# Altium integrated library Linear Technology Power Management LDO Linear Regulators.IntLib: 2339 symbols (part 37 of 131)
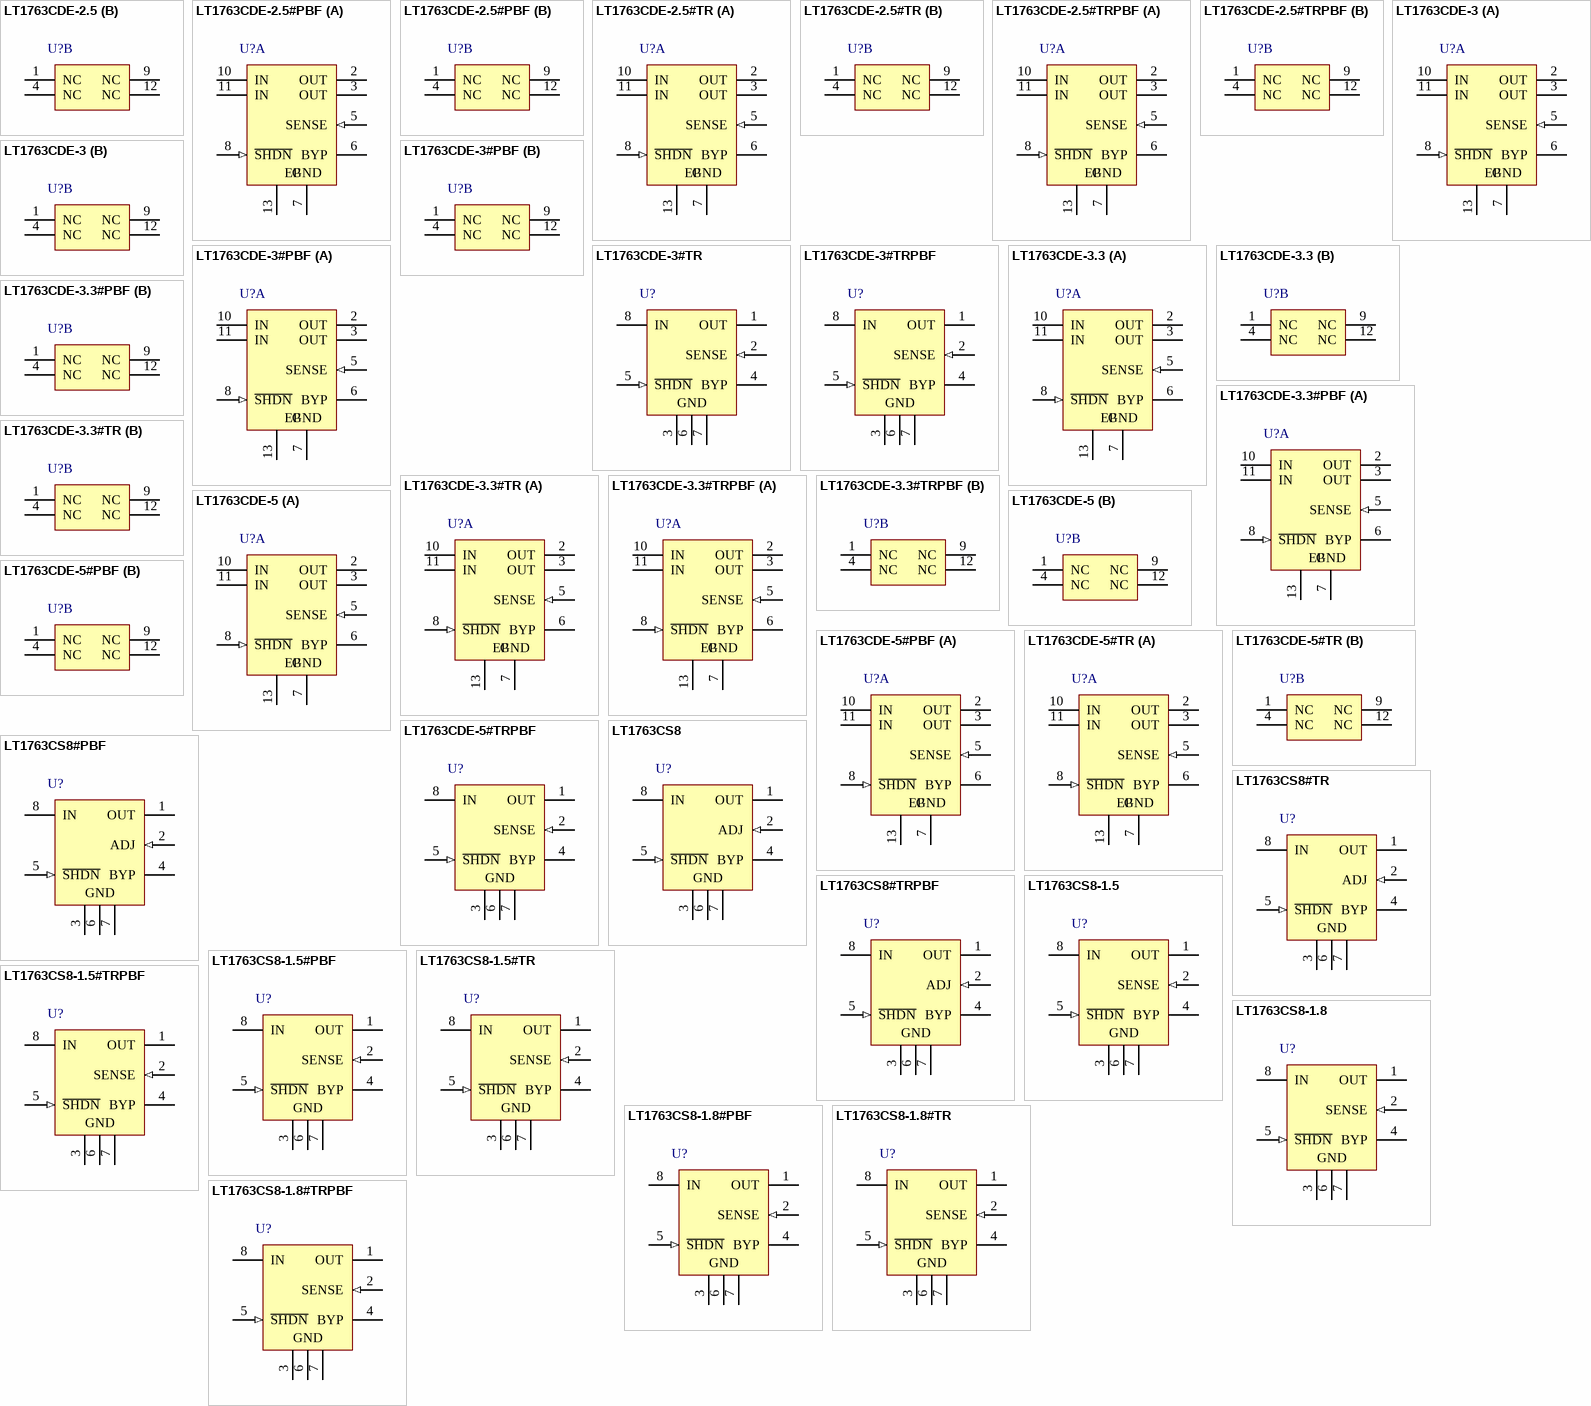
[diagram p105: symbols LT1763CDE-2.5 to LT1763CS8-1.8#TRPBF]

## LT1763CDE-3.3#TRPBF
designator U?
500 mA, Low Noise, LDO Micropower Regulator, 1.8 to 20 V Vin, 3.3 V Vout, 12-pin SON (DE-UE-12), -40 to 125 degC, Pb-Free, Tape and Reel; Manufacturer: Linear Technology; PartNumber: LT1763CDE-3.3#TRPBF; Discrete Pass Element: no; Dropout Voltage(V): 0.3; Iout(mA): 500; Isupply(mA): 0.03; Noise(uV): 20; Number of Outputs: 1; Output Voltage: 3.3 V; PSRR(dB): 65; Vin Min(V): 1.8; DatasheetVersion: Rev. G; PackageVersion: Rev. D, 06/2010; PackageReference: DE-UE-12; PackageDescription: 12-Pin Plastic DFN, Body 4 x 3 mm, Pitch 0.5 mm; Supplier 1: Digi-Key; Supplier Part Number 1: LT1763CDE-3.3#TRPBF-ND; Supplier 2: Newark; Supplier Part Number 2: 57M6031; Packing: Tape and Reel; RoHS: TRUE; Shutdown Current(uA): 1; Vin Max(V): 20; Mounting Technology: Surface Mount; Code_JEDEC: MO-229; ComponentLink1Description: Manufacturer URL; ComponentLink1URL: http://www.linear.com/; ComponentLink2Description: Datasheet; ComponentLink2URL: http://cds.linear.com/docs/en/datasheet/1763fg.pdf; ComponentLink3Description: Package Specification; ComponentLink3URL: http://cds.linear.com/docs/en/packaging/DFN_12_05-08-1695.pdf
footprint LT-DE-UE-12_V (SON, 12-Leads, Body 4x3mm, Pitch 0.5mm, Thermal Pad 3.3x1.7mm)
part A pins: 2 OUT (power) "Output. The output supplies power to the load. A minimum output capacitor of 3.3uF is required to prevent oscillations. Larger output capacitors will be required for applications with large transient loads to limit peak (See Datasheet)", 3 OUT (power) "Output. The output supplies power to the load. A minimum output capacitor of 3.3uF is required to prevent oscillations. Larger output capacitors will be required for applications with large transient loads to limit peak (See Datasheet)", 5 SENSE (in) "Output Sense. For ?xed voltage versions of the LT1763 (LT1763-1.5/LT1763-1.8/ LT1763-2.5/LT1763-3/LT1763-3.3/LT1763-5), the SENSE pin is the input to the error amplifier. Optimum regulation will be obtained at the po(See Datasheet)", 6 BYP "Bypass. The BYP pin is used to bypass  the reference of the LT1763 regulators to achieve low noise  performance from the regulator. The BYP pin is clamped  internally to +/-0.6V (one VBE). A small capacitor from the  output (See Datasheet)", 7 GND (power) "Ground. The exposed pad of the DFN package is an electrical connection to GND. To ensure proper electrical and thermal  performance, solder Pin 13 to the PCB ground and tie  directly to Pin 7. Connect the bottom of the (See Datasheet)", 8 ~{SHDN} (in) "Shutdown. The S\H\D\N\ pin is used  to put the LT1763 regulators into a low power shutdown state. The output will be off when the S\H\D\N\ pin is pulled low. The S\H\D\N\ pin can be driven either by 5V logic or (See Datasheet)", 10 IN (power) "Input. Power is supplied to the device through the IN pin. A bypass capacitor is required on this  pin if the device is more than six inches away from the  main input filter capacitor. In general, the output impedance of (See Datasheet)", 11 IN (power) "Input. Power is supplied to the device through the IN pin. A bypass capacitor is required on this  pin if the device is more than six inches away from the  main input filter capacitor. In general, the output impedance of (See Datasheet)", 13 EP (power) "Ground. The exposed pad of the DFN package is an electrical connection to GND. To ensure proper electrical and thermal performance, solder Pin 13 to the PCB ground and tie  directly to Pin 7. Connect the bottom of the output (See Datasheet)"
part B pins: 1 NC "No Connect. No connect  pins have no connection to any internal circuitry. These pins may be tied to either GND or VIN, or left floating.", 4 NC "No Connect. No connect  pins have no connection to any internal circuitry. These pins may be tied to either GND or VIN, or left floating.", 9 NC "No Connect. No connect  pins have no connection to any internal circuitry. These pins may be tied to either GND or VIN, or left floating.", 12 NC "No Connect. No connect  pins have no connection to any internal circuitry. These pins may be tied to either GND or VIN, or left ?oating."

## LT1763CDE-5
designator U?
500 mA, Low Noise, LDO Micropower Regulator, 1.8 to 20 V Vin, 5 V Vout, 12-pin SON (DE-UE-12), -40 to 125 degC; Manufacturer: Linear Technology; PartNumber: LT1763CDE-5; Discrete Pass Element: no; Dropout Voltage(V): 0.3; Iout(mA): 500; Isupply(mA): 0.03; Noise(uV): 20; Number of Outputs: 1; Output Voltage: 5 V; PSRR(dB): 65; Vin Min(V): 1.8; DatasheetVersion: Rev. G; PackageVersion: Rev. D, 06/2010; PackageReference: DE-UE-12; PackageDescription: 12-Pin Plastic DFN, Body 4 x 3 mm, Pitch 0.5 mm; Supplier 1: Newark; Supplier Part Number 1: 57M6035; RoHS: FALSE; Shutdown Current(uA): 1; Vin Max(V): 20; Mounting Technology: Surface Mount; Code_JEDEC: MO-229; ComponentLink1Description: Manufacturer URL; ComponentLink1URL: http://www.linear.com/; ComponentLink2Description: Datasheet; ComponentLink2URL: http://cds.linear.com/docs/en/datasheet/1763fg.pdf; ComponentLink3Description: Package Specification; ComponentLink3URL: http://cds.linear.com/docs/en/packaging/DFN_12_05-08-1695.pdf
footprint LT-DE-UE-12_V (SON, 12-Leads, Body 4x3mm, Pitch 0.5mm, Thermal Pad 3.3x1.7mm)
part A pins: 2 OUT (power) "Output. The output supplies power to the load. A minimum output capacitor of 3.3uF is required to prevent oscillations. Larger output capacitors will be required for applications with large transient loads to limit peak (See Datasheet)", 3 OUT (power) "Output. The output supplies power to the load. A minimum output capacitor of 3.3uF is required to prevent oscillations. Larger output capacitors will be required for applications with large transient loads to limit peak (See Datasheet)", 5 SENSE (in) "Output Sense. For ?xed voltage versions of the LT1763 (LT1763-1.5/LT1763-1.8/ LT1763-2.5/LT1763-3/LT1763-3.3/LT1763-5), the SENSE pin is the input to the error amplifier. Optimum regulation will be obtained at the po(See Datasheet)", 6 BYP "Bypass. The BYP pin is used to bypass  the reference of the LT1763 regulators to achieve low noise  performance from the regulator. The BYP pin is clamped  internally to +/-0.6V (one VBE). A small capacitor from the  output (See Datasheet)", 7 GND (power) "Ground. The exposed pad of the DFN package is an electrical connection to GND. To ensure proper electrical and thermal  performance, solder Pin 13 to the PCB ground and tie  directly to Pin 7. Connect the bottom of the (See Datasheet)", 8 ~{SHDN} (in) "Shutdown. The S\H\D\N\ pin is used  to put the LT1763 regulators into a low power shutdown state. The output will be off when the S\H\D\N\ pin is pulled low. The S\H\D\N\ pin can be driven either by 5V logic or (See Datasheet)", 10 IN (power) "Input. Power is supplied to the device through the IN pin. A bypass capacitor is required on this  pin if the device is more than six inches away from the  main input filter capacitor. In general, the output impedance of (See Datasheet)", 11 IN (power) "Input. Power is supplied to the device through the IN pin. A bypass capacitor is required on this  pin if the device is more than six inches away from the  main input filter capacitor. In general, the output impedance of (See Datasheet)", 13 EP (power) "Ground. The exposed pad of the DFN package is an electrical connection to GND. To ensure proper electrical and thermal performance, solder Pin 13 to the PCB ground and tie  directly to Pin 7. Connect the bottom of the output (See Datasheet)"
part B pins: 1 NC "No Connect. No connect  pins have no connection to any internal circuitry. These pins may be tied to either GND or VIN, or left floating.", 4 NC "No Connect. No connect  pins have no connection to any internal circuitry. These pins may be tied to either GND or VIN, or left floating.", 9 NC "No Connect. No connect  pins have no connection to any internal circuitry. These pins may be tied to either GND or VIN, or left floating.", 12 NC "No Connect. No connect  pins have no connection to any internal circuitry. These pins may be tied to either GND or VIN, or left ?oating."

## LT1763CDE-5#PBF
designator U?
500 mA, Low Noise, LDO Micropower Regulator, 1.8 to 20 V Vin, 5 V Vout, 12-pin SON (DE-UE-12), -40 to 125 degC, Pb-Free; Manufacturer: Linear Technology; PartNumber: LT1763CDE-5#PBF; Discrete Pass Element: no; Dropout Voltage(V): 0.3; Iout(mA): 500; Isupply(mA): 0.03; Noise(uV): 20; Number of Outputs: 1; Output Voltage: 5 V; PSRR(dB): 65; Vin Min(V): 1.8; DatasheetVersion: Rev. G; PackageVersion: Rev. D, 06/2010; PackageReference: DE-UE-12; PackageDescription: 12-Pin Plastic DFN, Body 4 x 3 mm, Pitch 0.5 mm; Supplier 1: Digi-Key; Supplier Part Number 1: LT1763CDE-5#PBF-ND; Supplier 2: Farnell; Supplier Part Number 2: 2115900; Supplier 3: Newark; Supplier Part Number 3: 57M6036; RoHS: TRUE; Shutdown Current(uA): 1; Vin Max(V): 20; Mounting Technology: Surface Mount; Code_JEDEC: MO-229; ComponentLink1Description: Manufacturer URL; ComponentLink1URL: http://www.linear.com/; ComponentLink2Description: Datasheet; ComponentLink2URL: http://cds.linear.com/docs/en/datasheet/1763fg.pdf; ComponentLink3Description: Package Specification; ComponentLink3URL: http://cds.linear.com/docs/en/packaging/DFN_12_05-08-1695.pdf
footprint LT-DE-UE-12_V (SON, 12-Leads, Body 4x3mm, Pitch 0.5mm, Thermal Pad 3.3x1.7mm)
part A pins: 2 OUT (power) "Output. The output supplies power to the load. A minimum output capacitor of 3.3uF is required to prevent oscillations. Larger output capacitors will be required for applications with large transient loads to limit peak (See Datasheet)", 3 OUT (power) "Output. The output supplies power to the load. A minimum output capacitor of 3.3uF is required to prevent oscillations. Larger output capacitors will be required for applications with large transient loads to limit peak (See Datasheet)", 5 SENSE (in) "Output Sense. For ?xed voltage versions of the LT1763 (LT1763-1.5/LT1763-1.8/ LT1763-2.5/LT1763-3/LT1763-3.3/LT1763-5), the SENSE pin is the input to the error amplifier. Optimum regulation will be obtained at the po(See Datasheet)", 6 BYP "Bypass. The BYP pin is used to bypass  the reference of the LT1763 regulators to achieve low noise  performance from the regulator. The BYP pin is clamped  internally to +/-0.6V (one VBE). A small capacitor from the  output (See Datasheet)", 7 GND (power) "Ground. The exposed pad of the DFN package is an electrical connection to GND. To ensure proper electrical and thermal  performance, solder Pin 13 to the PCB ground and tie  directly to Pin 7. Connect the bottom of the (See Datasheet)", 8 ~{SHDN} (in) "Shutdown. The S\H\D\N\ pin is used  to put the LT1763 regulators into a low power shutdown state. The output will be off when the S\H\D\N\ pin is pulled low. The S\H\D\N\ pin can be driven either by 5V logic or (See Datasheet)", 10 IN (power) "Input. Power is supplied to the device through the IN pin. A bypass capacitor is required on this  pin if the device is more than six inches away from the  main input filter capacitor. In general, the output impedance of (See Datasheet)", 11 IN (power) "Input. Power is supplied to the device through the IN pin. A bypass capacitor is required on this  pin if the device is more than six inches away from the  main input filter capacitor. In general, the output impedance of (See Datasheet)", 13 EP (power) "Ground. The exposed pad of the DFN package is an electrical connection to GND. To ensure proper electrical and thermal performance, solder Pin 13 to the PCB ground and tie  directly to Pin 7. Connect the bottom of the output (See Datasheet)"
part B pins: 1 NC "No Connect. No connect  pins have no connection to any internal circuitry. These pins may be tied to either GND or VIN, or left floating.", 4 NC "No Connect. No connect  pins have no connection to any internal circuitry. These pins may be tied to either GND or VIN, or left floating.", 9 NC "No Connect. No connect  pins have no connection to any internal circuitry. These pins may be tied to either GND or VIN, or left floating.", 12 NC "No Connect. No connect  pins have no connection to any internal circuitry. These pins may be tied to either GND or VIN, or left ?oating."

## LT1763CDE-5#TR
designator U?
500 mA, Low Noise, LDO Micropower Regulator, 1.8 to 20 V Vin, 5 V Vout, 12-pin SON (DE-UE-12), -40 to 125 degC, Tape and Reel; Manufacturer: Linear Technology; PartNumber: LT1763CDE-5#TR; Discrete Pass Element: no; Dropout Voltage(V): 0.3; Iout(mA): 500; Isupply(mA): 0.03; Noise(uV): 20; Number of Outputs: 1; Output Voltage: 5 V; PSRR(dB): 65; Vin Min(V): 1.8; DatasheetVersion: Rev. G; PackageVersion: Rev. D, 06/2010; PackageReference: DE-UE-12; PackageDescription: 12-Pin Plastic DFN, Body 4 x 3 mm, Pitch 0.5 mm; Supplier 1: Newark; Supplier Part Number 1: 57M6037; Packing: Tape and Reel; RoHS: FALSE; Shutdown Current(uA): 1; Vin Max(V): 20; Mounting Technology: Surface Mount; Code_JEDEC: MO-229; ComponentLink1Description: Manufacturer URL; ComponentLink1URL: http://www.linear.com/; ComponentLink2Description: Datasheet; ComponentLink2URL: http://cds.linear.com/docs/en/datasheet/1763fg.pdf; ComponentLink3Description: Package Specification; ComponentLink3URL: http://cds.linear.com/docs/en/packaging/DFN_12_05-08-1695.pdf
footprint LT-DE-UE-12_V (SON, 12-Leads, Body 4x3mm, Pitch 0.5mm, Thermal Pad 3.3x1.7mm)
part A pins: 2 OUT (power) "Output. The output supplies power to the load. A minimum output capacitor of 3.3uF is required to prevent oscillations. Larger output capacitors will be required for applications with large transient loads to limit peak (See Datasheet)", 3 OUT (power) "Output. The output supplies power to the load. A minimum output capacitor of 3.3uF is required to prevent oscillations. Larger output capacitors will be required for applications with large transient loads to limit peak (See Datasheet)", 5 SENSE (in) "Output Sense. For ?xed voltage versions of the LT1763 (LT1763-1.5/LT1763-1.8/ LT1763-2.5/LT1763-3/LT1763-3.3/LT1763-5), the SENSE pin is the input to the error amplifier. Optimum regulation will be obtained at the po(See Datasheet)", 6 BYP "Bypass. The BYP pin is used to bypass  the reference of the LT1763 regulators to achieve low noise  performance from the regulator. The BYP pin is clamped  internally to +/-0.6V (one VBE). A small capacitor from the  output (See Datasheet)", 7 GND (power) "Ground. The exposed pad of the DFN package is an electrical connection to GND. To ensure proper electrical and thermal  performance, solder Pin 13 to the PCB ground and tie  directly to Pin 7. Connect the bottom of the (See Datasheet)", 8 ~{SHDN} (in) "Shutdown. The S\H\D\N\ pin is used  to put the LT1763 regulators into a low power shutdown state. The output will be off when the S\H\D\N\ pin is pulled low. The S\H\D\N\ pin can be driven either by 5V logic or (See Datasheet)", 10 IN (power) "Input. Power is supplied to the device through the IN pin. A bypass capacitor is required on this  pin if the device is more than six inches away from the  main input filter capacitor. In general, the output impedance of (See Datasheet)", 11 IN (power) "Input. Power is supplied to the device through the IN pin. A bypass capacitor is required on this  pin if the device is more than six inches away from the  main input filter capacitor. In general, the output impedance of (See Datasheet)", 13 EP (power) "Ground. The exposed pad of the DFN package is an electrical connection to GND. To ensure proper electrical and thermal performance, solder Pin 13 to the PCB ground and tie  directly to Pin 7. Connect the bottom of the output (See Datasheet)"
part B pins: 1 NC "No Connect. No connect  pins have no connection to any internal circuitry. These pins may be tied to either GND or VIN, or left floating.", 4 NC "No Connect. No connect  pins have no connection to any internal circuitry. These pins may be tied to either GND or VIN, or left floating.", 9 NC "No Connect. No connect  pins have no connection to any internal circuitry. These pins may be tied to either GND or VIN, or left floating.", 12 NC "No Connect. No connect  pins have no connection to any internal circuitry. These pins may be tied to either GND or VIN, or left ?oating."

## LT1763CDE-5#TRPBF
designator U?
500 mA, Low Noise, LDO Micropower Regulator, 1.8 to 20 V Vin, 5 V Vout, 12-pin SON (DE-UE-12), -40 to 125 degC, Pb-Free, Tape and Reel; Manufacturer: Linear Technology; PartNumber: LT1763CDE-5#TRPBF; Discrete Pass Element: no; Dropout Voltage(V): 0.3; Iout(mA): 500; Isupply(mA): 0.03; Noise(uV): 20; Number of Outputs: 1; Output Voltage: 5 V; PSRR(dB): 65; Vin Min(V): 1.8; DatasheetVersion: Rev. G; PackageVersion: Rev. D, 06/2010; PackageReference: DE-UE-12; PackageDescription: 12-Pin Plastic DFN, Body 4 x 3 mm, Pitch 0.5 mm; Supplier 1: Digi-Key; Supplier Part Number 1: LT1763CDE-5#TRPBF-ND; Supplier 2: Newark; Supplier Part Number 2: 57M6038; Packing: Tape and Reel; RoHS: TRUE; Shutdown Current(uA): 1; Vin Max(V): 20; Mounting Technology: Surface Mount; Code_JEDEC: MO-229; ComponentLink1Description: Manufacturer URL; ComponentLink1URL: http://www.linear.com/; ComponentLink2Description: Datasheet; ComponentLink2URL: http://cds.linear.com/docs/en/datasheet/1763fg.pdf; ComponentLink3Description: Package Specification; ComponentLink3URL: http://cds.linear.com/docs/en/packaging/DFN_12_05-08-1695.pdf
footprint LT-DE-UE-12_V (SON, 12-Leads, Body 4x3mm, Pitch 0.5mm, Thermal Pad 3.3x1.7mm)
pins: 1 OUT (power) "Output. The output supplies power to the load. A minimum output capacitor of 3.3uF is required to prevent oscillations. Larger output capacitors  will be required for applications with large transient loads  to limit peak (See Datasheet)", 2 SENSE (in) "Output Sense. For ?xed voltage versions of the LT1763 (LT1763-1.5/LT1763-1.8/ LT1763-2.5/LT1763-3/LT1763-3.3/LT1763-5), the SENSE  pin is the input to the error ampli? er. Optimum regulation will be obtained at the po(See Datasheet)", 3 GND (power) "Ground. The exposed pad of the DFN package is an electrical connection to GND. To ensure proper electrical and thermal  performance, solder Pin 13 to the PCB ground and tie  directly to Pin 7. Connect the bottom of the (See Datasheet)", 4 BYP "Bypass. The BYP pin is used to bypass  the reference of the LT1763 regulators to achieve low noise  performance from the regulator. The BYP pin is clamped  internally to +/-0.6V (one VBE). A small capacitor from the  output (See Datasheet)", 5 ~{SHDN} (in) "Shutdown. The S\H\D\N\ pin is used to put the LT1763 regulators into a low power shutdown state. The output will be off when the S\H\D\N\ pin is pulled  low.The S\H\D\N\ pin can be driven either by 5V logic or open-collector (See Datasheet)", 6 GND (power) "Ground. The exposed pad of the DFN package is an electrical connection to GND. To ensure proper electrical and thermal  performance, solder Pin 13 to the PCB ground and tie  directly to Pin 7. Connect the bottom of the (See Datasheet)", 7 GND (power) "Ground. The exposed pad of the DFN package is an electrical connection to GND. To ensure proper electrical and thermal  performance, solder Pin 13 to the PCB ground and tie  directly to Pin 7. Connect the bottom of the (See Datasheet)", 8 IN (power) "Input. Power is supplied to the device through the IN pin. A bypass capacitor is required on this  pin if the device is more than six inches away from the  main input ? lter capacitor. In general, the output impedance of (See Datasheet)"

## LT1763CS8
designator U?
500 mA, Low Noise, LDO Micropower Regulator, 1.8 to 20 V Vin, Adjustable Vout, 8-pin SOIC (S8-8), -40 to 125 degC; Manufacturer: Linear Technology; PartNumber: LT1763CS8; Discrete Pass Element: no; Dropout Voltage(V): 0.3; Iout(mA): 500; Isupply(mA): 0.03; Noise(uV): 20; Number of Outputs: 1; Output Voltage: Adj; PSRR(dB): 65; Vin Min(V): 1.8; Vout Min(V): 1.22; DatasheetVersion: Rev. G; PackageVersion: Rev. G, 03/2012; PackageReference: S8-8; PackageDescription: 8-Pin Plastic Small Outline (Narrow .150 Inch), Body 4.9 x 3.9 mm, Pitch 1.27 mm; Supplier 1: Digi-Key; Supplier Part Number 1: LT1763CS8-ND; Supplier 2: Newark; Supplier Part Number 2: 57M6042; RoHS: FALSE; Shutdown Current(uA): 1; Vin Max(V): 20; Vout Max(V): 20; Mounting Technology: Surface Mount; ComponentLink1Description: Manufacturer URL; ComponentLink1URL: http://www.linear.com/; ComponentLink2Description: Datasheet; ComponentLink2URL: http://cds.linear.com/docs/en/datasheet/1763fg.pdf; ComponentLink3Description: Package Specification; ComponentLink3URL: http://cds.linear.com/docs/en/packaging/05081610_G_SO8.pdf
footprint LT-S8-8_N (SOIC, 8-Leads, Body 4.9x3.9mm, Pitch 1.27mm, IPC Medium Density)
footprint LT-S8-8_L (SOIC, 8-Leads, Body 4.9x3.9mm, Pitch 1.27mm, IPC High Density)
footprint LT-S8-8_M (SOIC, 8-Leads, Body 4.9x3.9mm, Pitch 1.27mm, IPC Low Density)
pins: 1 OUT (power) "Output. The output supplies power to the load. A minimum output capacitor of 3.3uF is required to prevent oscillations. Larger output capacitors  will be required for applications with large transient loads  to limit peak (See Datasheet)", 2 ADJ (in) "Adjust. For the adjustable LT1763, this is the input to the error ampli?er. This pin is internally clamped to +/-7V. It has a bias current of 30nA which ?ows into the pin (see the curve of ADJ Pin Bias Current(See Datasheet)", 3 GND (power) "Ground. The exposed pad of the DFN package is an electrical connection to GND. To ensure proper electrical and thermal  performance, solder Pin 13 to the PCB ground and tie  directly to Pin 7. Connect the bottom of the (See Datasheet)", 4 BYP "Bypass. The BYP pin is used to bypass  the reference of the LT1763 regulators to achieve low noise  performance from the regulator. The BYP pin is clamped  internally to +/-0.6V (one VBE). A small capacitor from the  output (See Datasheet)", 5 ~{SHDN} (in) "Shutdown. The S\H\D\N\ pin is used to put the LT1763 regulators into a low power shutdown state. The output will be off when the S\H\D\N\ pin is pulled  low.The S\H\D\N\ pin can be driven either by 5V logic or open-collector (See Datasheet)", 6 GND (power) "Ground. The exposed pad of the DFN package is an electrical connection to GND. To ensure proper electrical and thermal  performance, solder Pin 13 to the PCB ground and tie  directly to Pin 7. Connect the bottom of the (See Datasheet)", 7 GND (power) "Ground. The exposed pad of the DFN package is an electrical connection to GND. To ensure proper electrical and thermal  performance, solder Pin 13 to the PCB ground and tie  directly to Pin 7. Connect the bottom of the (See Datasheet)", 8 IN (power) "Input. Power is supplied to the device through the IN pin. A bypass capacitor is required on this  pin if the device is more than six inches away from the  main input ? lter capacitor. In general, the output impedance of (See Datasheet)"

## LT1763CS8#PBF
designator U?
500 mA, Low Noise, LDO Micropower Regulator, 1.8 to 20 V Vin, Adjustable Vout, 8-pin SOIC (S8-8), -40 to 125 degC, Pb-Free; Manufacturer: Linear Technology; PartNumber: LT1763CS8#PBF; Discrete Pass Element: no; Dropout Voltage(V): 0.3; Iout(mA): 500; Isupply(mA): 0.03; Noise(uV): 20; Number of Outputs: 1; Output Voltage: Adj; PSRR(dB): 65; Vin Min(V): 1.8; Vout Min(V): 1.22; DatasheetVersion: Rev. G; PackageVersion: Rev. G, 03/2012; PackageReference: S8-8; PackageDescription: 8-Pin Plastic Small Outline (Narrow .150 Inch), Body 4.9 x 3.9 mm, Pitch 1.27 mm; Supplier 1: Digi-Key; Supplier Part Number 1: LT1763CS8#PBF-ND; Supplier 2: Farnell; Supplier Part Number 2: 1273614; Supplier 3: Newark; Supplier Part Number 3: 57M6066; RoHS: TRUE; Shutdown Current(uA): 1; Vin Max(V): 20; Vout Max(V): 20; Mounting Technology: Surface Mount; ComponentLink1Description: Manufacturer URL; ComponentLink1URL: http://www.linear.com/; ComponentLink2Description: Datasheet; ComponentLink2URL: http://cds.linear.com/docs/en/datasheet/1763fg.pdf; ComponentLink3Description: Package Specification; ComponentLink3URL: http://cds.linear.com/docs/en/packaging/05081610_G_SO8.pdf
footprint LT-S8-8_N (SOIC, 8-Leads, Body 4.9x3.9mm, Pitch 1.27mm, IPC Medium Density)
footprint LT-S8-8_L (SOIC, 8-Leads, Body 4.9x3.9mm, Pitch 1.27mm, IPC High Density)
footprint LT-S8-8_M (SOIC, 8-Leads, Body 4.9x3.9mm, Pitch 1.27mm, IPC Low Density)
pins: 1 OUT (power) "Output. The output supplies power to the load. A minimum output capacitor of 3.3uF is required to prevent oscillations. Larger output capacitors  will be required for applications with large transient loads  to limit peak (See Datasheet)", 2 ADJ (in) "Adjust. For the adjustable LT1763, this is the input to the error ampli?er. This pin is internally clamped to +/-7V. It has a bias current of 30nA which ?ows into the pin (see the curve of ADJ Pin Bias Current(See Datasheet)", 3 GND (power) "Ground. The exposed pad of the DFN package is an electrical connection to GND. To ensure proper electrical and thermal  performance, solder Pin 13 to the PCB ground and tie  directly to Pin 7. Connect the bottom of the (See Datasheet)", 4 BYP "Bypass. The BYP pin is used to bypass  the reference of the LT1763 regulators to achieve low noise  performance from the regulator. The BYP pin is clamped  internally to +/-0.6V (one VBE). A small capacitor from the  output (See Datasheet)", 5 ~{SHDN} (in) "Shutdown. The S\H\D\N\ pin is used to put the LT1763 regulators into a low power shutdown state. The output will be off when the S\H\D\N\ pin is pulled  low.The S\H\D\N\ pin can be driven either by 5V logic or open-collector (See Datasheet)", 6 GND (power) "Ground. The exposed pad of the DFN package is an electrical connection to GND. To ensure proper electrical and thermal  performance, solder Pin 13 to the PCB ground and tie  directly to Pin 7. Connect the bottom of the (See Datasheet)", 7 GND (power) "Ground. The exposed pad of the DFN package is an electrical connection to GND. To ensure proper electrical and thermal  performance, solder Pin 13 to the PCB ground and tie  directly to Pin 7. Connect the bottom of the (See Datasheet)", 8 IN (power) "Input. Power is supplied to the device through the IN pin. A bypass capacitor is required on this  pin if the device is more than six inches away from the  main input ? lter capacitor. In general, the output impedance of (See Datasheet)"

## LT1763CS8#TR
designator U?
500 mA, Low Noise, LDO Micropower Regulator, 1.8 to 20 V Vin, Adjustable Vout, 8-pin SOIC (S8-8), -40 to 125 degC, Tape and Reel; Manufacturer: Linear Technology; PartNumber: LT1763CS8#TR; Discrete Pass Element: no; Dropout Voltage(V): 0.3; Iout(mA): 500; Isupply(mA): 0.03; Noise(uV): 20; Number of Outputs: 1; Output Voltage: Adj; PSRR(dB): 65; Vin Min(V): 1.8; Vout Min(V): 1.22; DatasheetVersion: Rev. G; PackageVersion: Rev. G, 03/2012; PackageReference: S8-8; PackageDescription: 8-Pin Plastic Small Outline (Narrow .150 Inch), Body 4.9 x 3.9 mm, Pitch 1.27 mm; Supplier 1: Digi-Key; Supplier Part Number 1: LT1763CS8#TR-ND; Supplier 2: Newark; Supplier Part Number 2: 57M6067; Packing: Tape and Reel; RoHS: FALSE; Shutdown Current(uA): 1; Vin Max(V): 20; Vout Max(V): 20; Mounting Technology: Surface Mount; ComponentLink1Description: Manufacturer URL; ComponentLink1URL: http://www.linear.com/; ComponentLink2Description: Datasheet; ComponentLink2URL: http://cds.linear.com/docs/en/datasheet/1763fg.pdf; ComponentLink3Description: Package Specification; ComponentLink3URL: http://cds.linear.com/docs/en/packaging/05081610_G_SO8.pdf
footprint LT-S8-8_N (SOIC, 8-Leads, Body 4.9x3.9mm, Pitch 1.27mm, IPC Medium Density)
footprint LT-S8-8_L (SOIC, 8-Leads, Body 4.9x3.9mm, Pitch 1.27mm, IPC High Density)
footprint LT-S8-8_M (SOIC, 8-Leads, Body 4.9x3.9mm, Pitch 1.27mm, IPC Low Density)
pins: 1 OUT (power) "Output. The output supplies power to the load. A minimum output capacitor of 3.3uF is required to prevent oscillations. Larger output capacitors  will be required for applications with large transient loads  to limit peak (See Datasheet)", 2 ADJ (in) "Adjust. For the adjustable LT1763, this is the input to the error ampli?er. This pin is internally clamped to +/-7V. It has a bias current of 30nA which ?ows into the pin (see the curve of ADJ Pin Bias Current(See Datasheet)", 3 GND (power) "Ground. The exposed pad of the DFN package is an electrical connection to GND. To ensure proper electrical and thermal  performance, solder Pin 13 to the PCB ground and tie  directly to Pin 7. Connect the bottom of the (See Datasheet)", 4 BYP "Bypass. The BYP pin is used to bypass  the reference of the LT1763 regulators to achieve low noise  performance from the regulator. The BYP pin is clamped  internally to +/-0.6V (one VBE). A small capacitor from the  output (See Datasheet)", 5 ~{SHDN} (in) "Shutdown. The S\H\D\N\ pin is used to put the LT1763 regulators into a low power shutdown state. The output will be off when the S\H\D\N\ pin is pulled  low.The S\H\D\N\ pin can be driven either by 5V logic or open-collector (See Datasheet)", 6 GND (power) "Ground. The exposed pad of the DFN package is an electrical connection to GND. To ensure proper electrical and thermal  performance, solder Pin 13 to the PCB ground and tie  directly to Pin 7. Connect the bottom of the (See Datasheet)", 7 GND (power) "Ground. The exposed pad of the DFN package is an electrical connection to GND. To ensure proper electrical and thermal  performance, solder Pin 13 to the PCB ground and tie  directly to Pin 7. Connect the bottom of the (See Datasheet)", 8 IN (power) "Input. Power is supplied to the device through the IN pin. A bypass capacitor is required on this  pin if the device is more than six inches away from the  main input ? lter capacitor. In general, the output impedance of (See Datasheet)"

## LT1763CS8#TRPBF
designator U?
500 mA, Low Noise, LDO Micropower Regulator, 1.8 to 20 V Vin, Adjustable Vout, 8-pin SOIC (S8-8), -40 to 125 degC, Pb-Free, Tape and Reel; Manufacturer: Linear Technology; PartNumber: LT1763CS8#TRPBF; Discrete Pass Element: no; Dropout Voltage(V): 0.3; Iout(mA): 500; Isupply(mA): 0.03; Noise(uV): 20; Number of Outputs: 1; Output Voltage: Adj; PSRR(dB): 65; Vin Min(V): 1.8; Vout Min(V): 1.22; DatasheetVersion: Rev. G; PackageVersion: Rev. G, 03/2012; PackageReference: S8-8; PackageDescription: 8-Pin Plastic Small Outline (Narrow .150 Inch), Body 4.9 x 3.9 mm, Pitch 1.27 mm; Supplier 1: Digi-Key; Supplier Part Number 1: LT1763CS8#TRPBFTR-ND; Supplier 2: Digi-Key; Supplier Part Number 2: LT1763CS8#TRPBFCT-ND; Supplier 3: Digi-Key; Supplier Part Number 3: LT1763CS8#TRPBFDKR-ND; Supplier 4: Newark; Supplier Part Number 4: 57M6068; Packing: Tape and Reel; RoHS: TRUE; Shutdown Current(uA): 1; Vin Max(V): 20; Vout Max(V): 20; Mounting Technology: Surface Mount; ComponentLink1Description: Manufacturer URL; ComponentLink1URL: http://www.linear.com/; ComponentLink2Description: Datasheet; ComponentLink2URL: http://cds.linear.com/docs/en/datasheet/1763fg.pdf; ComponentLink3Description: Package Specification; ComponentLink3URL: http://cds.linear.com/docs/en/packaging/05081610_G_SO8.pdf
footprint LT-S8-8_N (SOIC, 8-Leads, Body 4.9x3.9mm, Pitch 1.27mm, IPC Medium Density)
footprint LT-S8-8_L (SOIC, 8-Leads, Body 4.9x3.9mm, Pitch 1.27mm, IPC High Density)
footprint LT-S8-8_M (SOIC, 8-Leads, Body 4.9x3.9mm, Pitch 1.27mm, IPC Low Density)
pins: 1 OUT (power) "Output. The output supplies power to the load. A minimum output capacitor of 3.3uF is required to prevent oscillations. Larger output capacitors  will be required for applications with large transient loads  to limit peak (See Datasheet)", 2 ADJ (in) "Adjust. For the adjustable LT1763, this is the input to the error ampli?er. This pin is internally clamped to +/-7V. It has a bias current of 30nA which ?ows into the pin (see the curve of ADJ Pin Bias Current(See Datasheet)", 3 GND (power) "Ground. The exposed pad of the DFN package is an electrical connection to GND. To ensure proper electrical and thermal  performance, solder Pin 13 to the PCB ground and tie  directly to Pin 7. Connect the bottom of the (See Datasheet)", 4 BYP "Bypass. The BYP pin is used to bypass  the reference of the LT1763 regulators to achieve low noise  performance from the regulator. The BYP pin is clamped  internally to +/-0.6V (one VBE). A small capacitor from the  output (See Datasheet)", 5 ~{SHDN} (in) "Shutdown. The S\H\D\N\ pin is used to put the LT1763 regulators into a low power shutdown state. The output will be off when the S\H\D\N\ pin is pulled  low.The S\H\D\N\ pin can be driven either by 5V logic or open-collector (See Datasheet)", 6 GND (power) "Ground. The exposed pad of the DFN package is an electrical connection to GND. To ensure proper electrical and thermal  performance, solder Pin 13 to the PCB ground and tie  directly to Pin 7. Connect the bottom of the (See Datasheet)", 7 GND (power) "Ground. The exposed pad of the DFN package is an electrical connection to GND. To ensure proper electrical and thermal  performance, solder Pin 13 to the PCB ground and tie  directly to Pin 7. Connect the bottom of the (See Datasheet)", 8 IN (power) "Input. Power is supplied to the device through the IN pin. A bypass capacitor is required on this  pin if the device is more than six inches away from the  main input ? lter capacitor. In general, the output impedance of (See Datasheet)"

## LT1763CS8-1.5
designator U?
500 mA, Low Noise, LDO Micropower Regulator, 1.8 to 20 V Vin, 1.5 V Vout, 8-pin SOIC (S8-8), -40 to 125 degC; Manufacturer: Linear Technology; PartNumber: LT1763CS8-1.5; Discrete Pass Element: no; Dropout Voltage(V): 0.3; Iout(mA): 500; Isupply(mA): 0.03; Noise(uV): 20; Number of Outputs: 1; Output Voltage: 1.5 V; PSRR(dB): 65; Vin Min(V): 1.8; DatasheetVersion: Rev. G; PackageVersion: Rev. G, 03/2012; PackageReference: S8-8; PackageDescription: 8-Pin Plastic Small Outline (Narrow .150 Inch), Body 4.9 x 3.9 mm, Pitch 1.27 mm; Supplier 1: Digi-Key; Supplier Part Number 1: LT1763CS8-1.5-ND; RoHS: FALSE; Shutdown Current(uA): 1; Vin Max(V): 20; Mounting Technology: Surface Mount; ComponentLink1Description: Manufacturer URL; ComponentLink1URL: http://www.linear.com/; ComponentLink2Description: Datasheet; ComponentLink2URL: http://cds.linear.com/docs/en/datasheet/1763fg.pdf; ComponentLink3Description: Package Specification; ComponentLink3URL: http://cds.linear.com/docs/en/packaging/05081610_G_SO8.pdf
footprint LT-S8-8_N (SOIC, 8-Leads, Body 4.9x3.9mm, Pitch 1.27mm, IPC Medium Density)
footprint LT-S8-8_L (SOIC, 8-Leads, Body 4.9x3.9mm, Pitch 1.27mm, IPC High Density)
footprint LT-S8-8_M (SOIC, 8-Leads, Body 4.9x3.9mm, Pitch 1.27mm, IPC Low Density)
pins: 1 OUT (power) "Output. The output supplies power to the load. A minimum output capacitor of 3.3uF is required to prevent oscillations. Larger output capacitors  will be required for applications with large transient loads  to limit peak (See Datasheet)", 2 SENSE (in) "Output Sense. For ?xed voltage versions of the LT1763 (LT1763-1.5/LT1763-1.8/ LT1763-2.5/LT1763-3/LT1763-3.3/LT1763-5), the SENSE  pin is the input to the error ampli? er. Optimum regulation will be obtained at the po(See Datasheet)", 3 GND (power) "Ground. The exposed pad of the DFN package is an electrical connection to GND. To ensure proper electrical and thermal  performance, solder Pin 13 to the PCB ground and tie  directly to Pin 7. Connect the bottom of the (See Datasheet)", 4 BYP "Bypass. The BYP pin is used to bypass  the reference of the LT1763 regulators to achieve low noise  performance from the regulator. The BYP pin is clamped  internally to +/-0.6V (one VBE). A small capacitor from the  output (See Datasheet)", 5 ~{SHDN} (in) "Shutdown. The S\H\D\N\ pin is used to put the LT1763 regulators into a low power shutdown state. The output will be off when the S\H\D\N\ pin is pulled  low.The S\H\D\N\ pin can be driven either by 5V logic or open-collector (See Datasheet)", 6 GND (power) "Ground. The exposed pad of the DFN package is an electrical connection to GND. To ensure proper electrical and thermal  performance, solder Pin 13 to the PCB ground and tie  directly to Pin 7. Connect the bottom of the (See Datasheet)", 7 GND (power) "Ground. The exposed pad of the DFN package is an electrical connection to GND. To ensure proper electrical and thermal  performance, solder Pin 13 to the PCB ground and tie  directly to Pin 7. Connect the bottom of the (See Datasheet)", 8 IN (power) "Input. Power is supplied to the device through the IN pin. A bypass capacitor is required on this  pin if the device is more than six inches away from the  main input ? lter capacitor. In general, the output impedance of (See Datasheet)"

## LT1763CS8-1.5#PBF
designator U?
500 mA, Low Noise, LDO Micropower Regulator, 1.8 to 20 V Vin, 1.5 V Vout, 8-pin SOIC (S8-8), -40 to 125 degC, Pb-Free; Manufacturer: Linear Technology; PartNumber: LT1763CS8-1.5#PBF; Discrete Pass Element: no; Dropout Voltage(V): 0.3; Iout(mA): 500; Isupply(mA): 0.03; Noise(uV): 20; Number of Outputs: 1; Output Voltage: 1.5 V; PSRR(dB): 65; Vin Min(V): 1.8; DatasheetVersion: Rev. G; PackageVersion: Rev. G, 03/2012; PackageReference: S8-8; PackageDescription: 8-Pin Plastic Small Outline (Narrow .150 Inch), Body 4.9 x 3.9 mm, Pitch 1.27 mm; Supplier 1: Digi-Key; Supplier Part Number 1: LT1763CS8-1.5#PBF-ND; Supplier 2: Farnell; Supplier Part Number 2: 2102598; Supplier 3: Newark; Supplier Part Number 3: 57M6044; RoHS: TRUE; Shutdown Current(uA): 1; Vin Max(V): 20; Mounting Technology: Surface Mount; ComponentLink1Description: Manufacturer URL; ComponentLink1URL: http://www.linear.com/; ComponentLink2Description: Datasheet; ComponentLink2URL: http://cds.linear.com/docs/en/datasheet/1763fg.pdf; ComponentLink3Description: Package Specification; ComponentLink3URL: http://cds.linear.com/docs/en/packaging/05081610_G_SO8.pdf
footprint LT-S8-8_N (SOIC, 8-Leads, Body 4.9x3.9mm, Pitch 1.27mm, IPC Medium Density)
footprint LT-S8-8_L (SOIC, 8-Leads, Body 4.9x3.9mm, Pitch 1.27mm, IPC High Density)
footprint LT-S8-8_M (SOIC, 8-Leads, Body 4.9x3.9mm, Pitch 1.27mm, IPC Low Density)
pins: 1 OUT (power) "Output. The output supplies power to the load. A minimum output capacitor of 3.3uF is required to prevent oscillations. Larger output capacitors  will be required for applications with large transient loads  to limit peak (See Datasheet)", 2 SENSE (in) "Output Sense. For ?xed voltage versions of the LT1763 (LT1763-1.5/LT1763-1.8/ LT1763-2.5/LT1763-3/LT1763-3.3/LT1763-5), the SENSE  pin is the input to the error ampli? er. Optimum regulation will be obtained at the po(See Datasheet)", 3 GND (power) "Ground. The exposed pad of the DFN package is an electrical connection to GND. To ensure proper electrical and thermal  performance, solder Pin 13 to the PCB ground and tie  directly to Pin 7. Connect the bottom of the (See Datasheet)", 4 BYP "Bypass. The BYP pin is used to bypass  the reference of the LT1763 regulators to achieve low noise  performance from the regulator. The BYP pin is clamped  internally to +/-0.6V (one VBE). A small capacitor from the  output (See Datasheet)", 5 ~{SHDN} (in) "Shutdown. The S\H\D\N\ pin is used to put the LT1763 regulators into a low power shutdown state. The output will be off when the S\H\D\N\ pin is pulled  low.The S\H\D\N\ pin can be driven either by 5V logic or open-collector (See Datasheet)", 6 GND (power) "Ground. The exposed pad of the DFN package is an electrical connection to GND. To ensure proper electrical and thermal  performance, solder Pin 13 to the PCB ground and tie  directly to Pin 7. Connect the bottom of the (See Datasheet)", 7 GND (power) "Ground. The exposed pad of the DFN package is an electrical connection to GND. To ensure proper electrical and thermal  performance, solder Pin 13 to the PCB ground and tie  directly to Pin 7. Connect the bottom of the (See Datasheet)", 8 IN (power) "Input. Power is supplied to the device through the IN pin. A bypass capacitor is required on this  pin if the device is more than six inches away from the  main input ? lter capacitor. In general, the output impedance of (See Datasheet)"

## LT1763CS8-1.5#TR
designator U?
500 mA, Low Noise, LDO Micropower Regulator, 1.8 to 20 V Vin, 1.5 V Vout, 8-pin SOIC (S8-8), -40 to 125 degC, Tape and Reel; Manufacturer: Linear Technology; PartNumber: LT1763CS8-1.5#TR; Discrete Pass Element: no; Dropout Voltage(V): 0.3; Iout(mA): 500; Isupply(mA): 0.03; Noise(uV): 20; Number of Outputs: 1; Output Voltage: 1.5 V; PSRR(dB): 65; Vin Min(V): 1.8; DatasheetVersion: Rev. G; PackageVersion: Rev. G, 03/2012; PackageReference: S8-8; PackageDescription: 8-Pin Plastic Small Outline (Narrow .150 Inch), Body 4.9 x 3.9 mm, Pitch 1.27 mm; Supplier 1: Digi-Key; Supplier Part Number 1: LT1763CS8-1.5#TR-ND; Packing: Tape and Reel; RoHS: FALSE; Shutdown Current(uA): 1; Vin Max(V): 20; Mounting Technology: Surface Mount; ComponentLink1Description: Manufacturer URL; ComponentLink1URL: http://www.linear.com/; ComponentLink2Description: Datasheet; ComponentLink2URL: http://cds.linear.com/docs/en/datasheet/1763fg.pdf; ComponentLink3Description: Package Specification; ComponentLink3URL: http://cds.linear.com/docs/en/packaging/05081610_G_SO8.pdf
footprint LT-S8-8_N (SOIC, 8-Leads, Body 4.9x3.9mm, Pitch 1.27mm, IPC Medium Density)
footprint LT-S8-8_L (SOIC, 8-Leads, Body 4.9x3.9mm, Pitch 1.27mm, IPC High Density)
footprint LT-S8-8_M (SOIC, 8-Leads, Body 4.9x3.9mm, Pitch 1.27mm, IPC Low Density)
pins: 1 OUT (power) "Output. The output supplies power to the load. A minimum output capacitor of 3.3uF is required to prevent oscillations. Larger output capacitors  will be required for applications with large transient loads  to limit peak (See Datasheet)", 2 SENSE (in) "Output Sense. For ?xed voltage versions of the LT1763 (LT1763-1.5/LT1763-1.8/ LT1763-2.5/LT1763-3/LT1763-3.3/LT1763-5), the SENSE  pin is the input to the error ampli? er. Optimum regulation will be obtained at the po(See Datasheet)", 3 GND (power) "Ground. The exposed pad of the DFN package is an electrical connection to GND. To ensure proper electrical and thermal  performance, solder Pin 13 to the PCB ground and tie  directly to Pin 7. Connect the bottom of the (See Datasheet)", 4 BYP "Bypass. The BYP pin is used to bypass  the reference of the LT1763 regulators to achieve low noise  performance from the regulator. The BYP pin is clamped  internally to +/-0.6V (one VBE). A small capacitor from the  output (See Datasheet)", 5 ~{SHDN} (in) "Shutdown. The S\H\D\N\ pin is used to put the LT1763 regulators into a low power shutdown state. The output will be off when the S\H\D\N\ pin is pulled  low.The S\H\D\N\ pin can be driven either by 5V logic or open-collector (See Datasheet)", 6 GND (power) "Ground. The exposed pad of the DFN package is an electrical connection to GND. To ensure proper electrical and thermal  performance, solder Pin 13 to the PCB ground and tie  directly to Pin 7. Connect the bottom of the (See Datasheet)", 7 GND (power) "Ground. The exposed pad of the DFN package is an electrical connection to GND. To ensure proper electrical and thermal  performance, solder Pin 13 to the PCB ground and tie  directly to Pin 7. Connect the bottom of the (See Datasheet)", 8 IN (power) "Input. Power is supplied to the device through the IN pin. A bypass capacitor is required on this  pin if the device is more than six inches away from the  main input ? lter capacitor. In general, the output impedance of (See Datasheet)"

## LT1763CS8-1.5#TRPBF
designator U?
500 mA, Low Noise, LDO Micropower Regulator, 1.8 to 20 V Vin, 1.5 V Vout, 8-pin SOIC (S8-8), -40 to 125 degC, Pb-Free, Tape and Reel; Manufacturer: Linear Technology; PartNumber: LT1763CS8-1.5#TRPBF; Discrete Pass Element: no; Dropout Voltage(V): 0.3; Iout(mA): 500; Isupply(mA): 0.03; Noise(uV): 20; Number of Outputs: 1; Output Voltage: 1.5 V; PSRR(dB): 65; Vin Min(V): 1.8; DatasheetVersion: Rev. G; PackageVersion: Rev. G, 03/2012; PackageReference: S8-8; PackageDescription: 8-Pin Plastic Small Outline (Narrow .150 Inch), Body 4.9 x 3.9 mm, Pitch 1.27 mm; Supplier 1: Digi-Key; Supplier Part Number 1: LT1763CS8-1.5#TRPBF-ND; Packing: Tape and Reel; RoHS: TRUE; Shutdown Current(uA): 1; Vin Max(V): 20; Mounting Technology: Surface Mount; ComponentLink1Description: Manufacturer URL; ComponentLink1URL: http://www.linear.com/; ComponentLink2Description: Datasheet; ComponentLink2URL: http://cds.linear.com/docs/en/datasheet/1763fg.pdf; ComponentLink3Description: Package Specification; ComponentLink3URL: http://cds.linear.com/docs/en/packaging/05081610_G_SO8.pdf
footprint LT-S8-8_N (SOIC, 8-Leads, Body 4.9x3.9mm, Pitch 1.27mm, IPC Medium Density)
footprint LT-S8-8_L (SOIC, 8-Leads, Body 4.9x3.9mm, Pitch 1.27mm, IPC High Density)
footprint LT-S8-8_M (SOIC, 8-Leads, Body 4.9x3.9mm, Pitch 1.27mm, IPC Low Density)
pins: 1 OUT (power) "Output. The output supplies power to the load. A minimum output capacitor of 3.3uF is required to prevent oscillations. Larger output capacitors  will be required for applications with large transient loads  to limit peak (See Datasheet)", 2 SENSE (in) "Output Sense. For ?xed voltage versions of the LT1763 (LT1763-1.5/LT1763-1.8/ LT1763-2.5/LT1763-3/LT1763-3.3/LT1763-5), the SENSE  pin is the input to the error ampli? er. Optimum regulation will be obtained at the po(See Datasheet)", 3 GND (power) "Ground. The exposed pad of the DFN package is an electrical connection to GND. To ensure proper electrical and thermal  performance, solder Pin 13 to the PCB ground and tie  directly to Pin 7. Connect the bottom of the (See Datasheet)", 4 BYP "Bypass. The BYP pin is used to bypass  the reference of the LT1763 regulators to achieve low noise  performance from the regulator. The BYP pin is clamped  internally to +/-0.6V (one VBE). A small capacitor from the  output (See Datasheet)", 5 ~{SHDN} (in) "Shutdown. The S\H\D\N\ pin is used to put the LT1763 regulators into a low power shutdown state. The output will be off when the S\H\D\N\ pin is pulled  low.The S\H\D\N\ pin can be driven either by 5V logic or open-collector (See Datasheet)", 6 GND (power) "Ground. The exposed pad of the DFN package is an electrical connection to GND. To ensure proper electrical and thermal  performance, solder Pin 13 to the PCB ground and tie  directly to Pin 7. Connect the bottom of the (See Datasheet)", 7 GND (power) "Ground. The exposed pad of the DFN package is an electrical connection to GND. To ensure proper electrical and thermal  performance, solder Pin 13 to the PCB ground and tie  directly to Pin 7. Connect the bottom of the (See Datasheet)", 8 IN (power) "Input. Power is supplied to the device through the IN pin. A bypass capacitor is required on this  pin if the device is more than six inches away from the  main input ? lter capacitor. In general, the output impedance of (See Datasheet)"